# Altium schematic symbol library Passives.SchLib: 160 symbols (part 2 of 2)
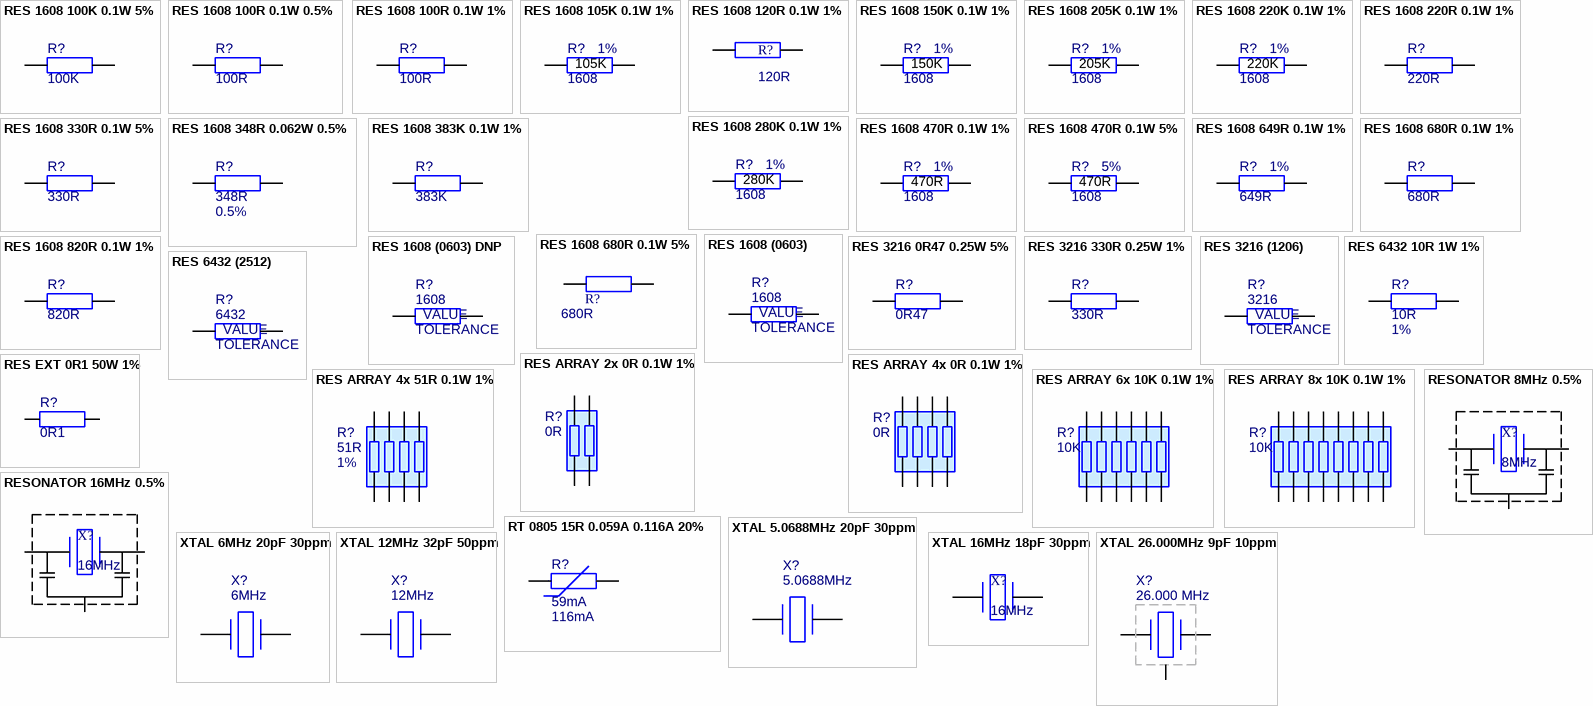
[diagram p4: symbols RES 1608 100K 0.1W 5% to XTAL 26.000MHz 9pF 10ppm]

## RES 1608 100K 0.1W 5%
designator R?  value 100K  (hidden comment: RES 1608 100K 0.1W 5%)
Resistor; Package Imperial: 0603; Supplier 1: Mouser; Supplier Part Number 1: 791-WR06X1003FTL; ComponentLink1Description: Datasheet; Last Updated: 2013-09-28; Package: 1608; Tolerance: 5%; Created: 2013-09-28; Power Rating: 0.1W
footprint RES_0603 (Chip Resistor, Body 1.6x0.8mm, IPC High Density)
footprint RES_1608 (0603)
pins: 1, 2

## RES 1608 100R 0.1W 0.5%
designator R?  value 100R  (hidden comment: RES 1608 100R 0.1W 0.5%)
Resistor; Package Imperial: 0603; Supplier 1: Mouser; Supplier Part Number 1: 667-ERA-3AED101V; ComponentLink1Description: Datasheet; Last Updated: 2014-02-11; Package: 1608; Tolerance: 0.5%; Created: 2013-09-28; Power Rating: 0.1W
footprint RES_0603 (Chip Resistor, Body 1.6x0.8mm, IPC High Density)
footprint RES_1608 (0603)
pins: 1, 2

## RES 1608 100R 0.1W 1%
designator R?  value 100R  (hidden comment: RES 1608 100R 0.1W 1%)
Resistor; Manufacturer 1: Vishay; Manufacturer Part Number 1: CRCW0603100RFKEA; Package Imperial: 0603; Supplier 1: Mouser; Supplier Part Number 1: 71-CRCW0603-100-E3; ComponentLink1Description: Datasheet; Last Updated: 2014-02-11; Package: 1608; Tolerance: 1%; Created: 2013-09-28; Power Rating: 0.1W
footprint RES_0603 (Chip Resistor, Body 1.6x0.8mm, IPC High Density)
footprint RES_1608 (0603)
pins: 1, 2

## RES 1608 105K 0.1W 1%
designator R?  Tolerance: 1%  Package: 1608  (hidden comment: RES 1608 105K 0.1W 1%)
Resistor; Manufacturer 1: Vishay; Manufacturer Part Number 1: CRCW0603105KFKEA; Package Imperial: 0603; Supplier 1: Mouser; Supplier Part Number 1: 71-CRCW0603-105K-E3; ComponentLink1Description: Datasheet; Last Updated: 2015-04-27; Created: 2014-02-17; Power Rating: 0.1W; Value: 105K
footprint RESC1608 (0603) (Metric (Imperial))
pins: 1, 2

## RES 1608 120R 0.1W 1%
designator R?  value 120R  (hidden comment: RES 1608 120R 0.1W 1%)
Resistor; Manufacturer 1: Vishay; Manufacturer Part Number 1: CRCW0603120RFKEB; Package Imperial: 0603; Supplier 1: Mouser; Supplier Part Number 1: 71-CRCW0603120RFKEB; Last Updated: 2013-11-19; ComponentLink1Description: Datasheet; ComponentLink1URL: http://www.mouser.com/ds/2/427/dcrcwe3-109170.pdf; Package: 1608; Tolerance: 1%; Created: 2013-11-19; Power Rating: 0.1W
footprint RES_0603 (Chip Resistor, Body 1.6x0.8mm, IPC High Density)
footprint RES_1608 (0603)
pins: 1, 2

## RES 1608 150K 0.1W 1%
designator R?  Package: 1608  Tolerance: 1%  (hidden comment: RES 1608 150K 0.1W 1%)
Resistor; Manufacturer 1: Vishay; Manufacturer Part Number 1: CRCW0603150KFKEA; Package Imperial: 0603; Supplier 1: Mouser; Supplier Part Number 1: 71-CRCW0603-150K-E3; Last Updated: 2014-01-24; ComponentLink1Description: Datasheet; Created: 2014-01-24; Power Rating: 0.1W; Value: 150K
footprint RESC1608 (0603) (Metric (Imperial))
pins: 1, 2

## RES 1608 205K 0.1W 1%
designator R?  Tolerance: 1%  Package: 1608  (hidden comment: RES 1608 205K 0.1W 1%)
Resistor; Manufacturer 1: Vishay; Manufacturer Part Number 1: CRCW0603205KFKEA; Package Imperial: 0603; Supplier 1: Mouser; Supplier Part Number 1: 71-CRCW0603-205K-E3; ComponentLink1Description: Datasheet; Last Updated: 2015-04-27; Created: 2014-02-17; Power Rating: 0.1W; Value: 205K
footprint RESC1608 (0603) (Metric (Imperial))
pins: 1, 2

## RES 1608 220K 0.1W 1%
designator R?  Tolerance: 1%  Package: 1608  (hidden comment: RES 1608 220K 0.1W 1%)
Resistor; Manufacturer 1: Vishay; Manufacturer Part Number 1: CRCW0603220KFKEA; Package Imperial: 0603; Value: 220R; Supplier 1: Mouser; Supplier Part Number 1: 71-CRCW0603-220K-E3; ComponentLink1Description: Datasheet; Last Updated: 2015-04-27; Created: 2013-09-28; Power Rating: 0.1W
footprint RESC1608 (0603) (Metric (Imperial))
pins: 1, 2
text: 220K

## RES 1608 220R 0.1W 1%
designator R?  value 220R  (hidden comment: RES 1608 220R 0.1W 1%)
Resistor; Package Imperial: 0603; Supplier 1: Mouser; Supplier Part Number 1: 660-RK73H1JTTD2200F; Tolerance: 1%; ComponentLink1Description: Datasheet; Last Updated: 2014-02-07; Package: 1608; Created: 2013-09-28; Power Rating: 0.1W
footprint RES_1608 (0603) (Metric (Imperial))
pins: 1, 2

## RES 1608 280K 0.1W 1%
designator R?  Tolerance: 1%  Package: 1608  (hidden comment: RES 1608 280K 0.1W 1%)
Resistor; Manufacturer 1: Vishay; Manufacturer Part Number 1: CRCW0603280KFKEA; Package Imperial: 0603; Supplier 1: Mouser; Supplier Part Number 1: 71-CRCW0603-280K-E3; ComponentLink1Description: Datasheet; Last Updated: 2015-04-27; Created: 2014-02-17; Power Rating: 0.1W; Value: 280K
footprint RESC1608 (0603) (Metric (Imperial))
pins: 1, 2

## RES 1608 330R 0.1W 5%
designator R?  value 330R  (hidden comment: RES 1608 330R 0.1W 5%)
Resistor; Package Imperial: 0603; ComponentLink1Description: Datasheet; Last Updated: 2014-06-02; Created: 2014-06-02; Power Rating: 0.1W; Package: 1608; Tolerance: 5%
footprint RES_1608 (0603) (Metric (Imperial))
pins: 1, 2

## RES 1608 348R 0.062W 0.5%
designator R?, comment value 348R  Tolerance: 0.5%  (hidden comment: RES 1608 348R  0.062W 0.5%)
Resistor; Manufacturer 1: Susumu; Manufacturer Part Number 1: RR0816P-3480-D-53A; Package Imperial: 0603; Supplier 1: Mouser; Supplier Part Number 1: 754-RR0816P-3480D53A; ComponentLink1Description: Datasheet; Last Updated: 2014-05-17; Package: 1608; Created: 2014-05-17; Power Rating: 0.062W
footprint RES_0603 (Chip Resistor, Body 1.6x0.8mm, IPC High Density)
footprint RES_1608 (0603)
pins: 1, 2

## RES 1608 383K 0.1W 1%
designator R?  value 383K  (hidden comment: RES 1608 383K 0.1W 1%)
Resistor; Manufacturer 1: Panasonic; Manufacturer Part Number 1: ERJ-3EKF3833V; Package Imperial: 0603; Supplier 1: Mouser; Supplier Part Number 1: 667-ERJ-3EKF3833V; Tolerance: 1%; ComponentLink1Description: Datasheet; Last Updated: 2014-02-11; Created: 2014-02-07; Power Rating: 0.1W; Package: 1608
footprint RES_0603 (Chip Resistor, Body 1.6x0.8mm, IPC High Density)
footprint RES_1608 (0603)
pins: 1, 2

## RES 1608 470R 0.1W 1%
designator R?  Tolerance: 1%  Package: 1608  (hidden comment: RES 1608 470R 0.1W 1%)
Resistor; Package Imperial: 0603; Supplier 1: Mouser; Supplier Part Number 1: 667-ERA-3AED471V; ComponentLink1Description: Datasheet; Last Updated: 2014-02-16; Created: 2013-09-28; Power Rating: 0.1W; Value: 470R
footprint RESC1608 (0603) (Metric (Imperial))
pins: 1, 2

## RES 1608 470R 0.1W 5%
designator R?  Package: 1608  Tolerance: 5%  (hidden comment: RES 1608 470R 0.1W 5%)
Resistor; Package Imperial: 0603; Supplier 1: Mouser; Supplier Part Number 1: 667-ERA-3AED471V; ComponentLink1Description: Datasheet; Last Updated: 2015-04-27; Created: 2013-09-28; Power Rating: 0.1W; Value: 470R
footprint RESC1608 (0603) (Metric (Imperial))
pins: 1, 2

## RES 1608 649R 0.1W 1%
designator R?  value 649R  Tolerance: 1%  (hidden comment: RES 1608 649R 0.1W 1%)
Resistor; Package Imperial: 0603; ComponentLink1Description: Datasheet; Last Updated: 2014-05-25; Created: 2014-05-25; Power Rating: 0.1W; Package: 1608
footprint RES_1608 (0603) (Metric (Imperial))
pins: 1, 2

## RES 1608 680R 0.1W 1%
designator R?  value 680R  (hidden comment: RES 1608 680R 0.1W 1%)
Resistor; Package Imperial: 0603; Supplier 1: Mouser; Supplier Part Number 1: 667-ERA-3AED681V; Tolerance: 1%; ComponentLink1Description: Datasheet; Last Updated: 2013-09-28; Package: 1608; Created: 2013-09-28; Power Rating: 0.1W
footprint RES_1608 (0603)
pins: 1, 2

## RES 1608 680R 0.1W 5%
designator R?  value 680R  (hidden comment: RES 1608 680R 0.1W 5%)
Resistor; Package Imperial: 0603; Supplier 1: Mouser; Supplier Part Number 1: 667-ERA-3AED681V; ComponentLink1Description: Datasheet; Last Updated: 2013-09-28; Package: 1608; Tolerance: 5%; Created: 2013-09-28; Power Rating: 0.1W
footprint RES_0603 (Chip Resistor, Body 1.6x0.8mm, IPC High Density)
footprint RES_1608 (0603)
pins: 1, 2

## RES 1608 820R 0.1W 1%
designator R?  value 820R  (hidden comment: RES 1608 820R 0.1W 1%)
Resistor; Manufacturer 1: Panasonic; Manufacturer Part Number 1: ERJ-3EKF8200V; Package Imperial: 0603; Supplier 1: Mouser; Supplier Part Number 1: 667-ERJ-3EKF8200V; Tolerance: 1%; ComponentLink1Description: Datasheet; Last Updated: 2014-07-23; Package: 1608; Created: 2013-09-28; Power Rating: 0.1W
footprint RES_1608 (0603) (Metric (Imperial))
pins: 1, 2

## RES 1608 (0603)
designator R?, comment Package: 1608  (hidden comment: Resistor)
Power Rating: 0.1W; Package Imperial: 0603; ComponentLink1Description: Datasheet; Last Updated: 2014-02-07; Created: 2014-02-07; Tolerance: TOLERANCE; Value: VALUE
footprint RES_1608 (0603)
pins: 1, 2

## RES 1608 (0603) DNP
designator R?  Package: 1608  (hidden comment: RES 1608 (0603) DNP)
Resistor; Power Rating: 0.1W; Package Imperial: 0603; Last Updated: 2013-10-17; Created: 2013-10-17; ComponentLink1Description: Datasheet; Tolerance: TOLERANCE; Value: VALUE
footprint RES_1608_DNP (0603) (Metric (Imperial))
pins: 1, 2

## RES 3216 0R47 0.25W 5%
designator R?  value 0R47  (hidden comment: RES 3216 0R47 0.25W 5%)
Resistor; Package Imperial: 1206; Supplier 1: Mouser; Supplier Part Number 1: 652-CRL1206JWR470ELF; ComponentLink1Description: Datasheet; Last Updated: 2014-02-17; Package: 3216; Tolerance: 5%; Created: 2013-09-28; Power Rating: 0.25W
footprint RES_3216 (1206) (Metric (Imperial))
pins: 1, 2

## RES 3216 330R 0.25W 1%
designator R?  value 330R  (hidden comment: RES 3216 330R 0.25W 1%)
Resistor; Manufacturer 1: Panasonic; Manufacturer Part Number 1: ERJ-8ENF3300V; Package Imperial: 1206; Supplier 1: Mouser; Supplier Part Number 1: 667-ERJ-8ENF3300V; Tolerance: 1%; ComponentLink1Description: Datasheet; Last Updated: 2014-02-16; Package: 3216; Created: 2014-02-16; Power Rating: 0.25W
footprint RES_3216 (1206) (Metric (Imperial))
pins: 1, 2

## RES 3216 (1206)
designator R?  Package: 3216  (hidden comment: RES 3216 (1206))
Resistor; Package Imperial: 1206; ComponentLink1Description: Datasheet; Last Updated: 2014-02-17; Created: 2013-09-28; Tolerance: TOLERANCE; Value: VALUE
footprint RES_3216 (1206) (Metric (Imperial))
pins: 1, 2

## RES 6432 10R 1W 1%
designator R?  value 10R  Tolerance: 1%  (hidden comment: RES 6432 10R 1W 1%)
Resistor; Manufacturer 1: KOA; Manufacturer Part Number 1: SL1TTE10R0F; Package Imperial: 2512; Supplier 1: Mouser; Supplier Part Number 1: 660-SL1TTE10R0F; ComponentLink1Description: Datasheet; Last Updated: 2014-08-23; Package: 6432; Created: 2014-08-23; Power Rating: 1W
footprint RES_6432 (2512) (Chip Resistor, 2-Leads, Body 5,65x3,10mm, IPC Medium Density)
pins: 1, 2

## RES 6432 (2512)
designator R?  Package: 6432  (hidden comment: RES 6432 (2512))
Resistor; Package Imperial: 2512; ComponentLink1Description: Datasheet; Last Updated: 2014-08-23; Created: 2014-08-23; Tolerance: TOLERANCE; Value: VALUE
footprint RES_6432 (2512) (Chip Resistor, 2-Leads, Body 5,65x3,10mm, IPC Medium Density)
pins: 1, 2

## RES ARRAY 2x 0R 0.1W 1%
designator R?  value 0R  (hidden comment: RES ARRAY 2x 0R 0.1W 1%)
Resistor Array; Manufacturer 1: Bourns; Power Rating: 0.062W; Last Updated: 2014-05-22; ComponentLink1Description: Datasheet; Package: CAT16-J2; Created: 2014-05-22; Quantity: 2; Tolerance: 1%
footprint ARRAY_CAT16J2
pins: 1, 2, 3, 4

## RES ARRAY 4x 0R 0.1W 1%
designator R?  value 0R  (hidden comment: RES ARRAY 4x 0R 0.1W 1%)
Resistor Array; Manufacturer 1: Bourns; Manufacturer Part Number 1: CAY16-51R0F4LF; Power Rating: 0.062W; Supplier 1: Mouser; Supplier Part Number 1: 652-CAY16-51R0F4LF; Last Updated: 2014-06-16; ComponentLink1Description: Datasheet; Package: CAY16-J2; Created: 2014-06-16; Quantity: 4; Tolerance: 1%
footprint ARRAY_CAY16F4
pins: 1, 2, 3, 4, 5, 6, 7, 8

## RES ARRAY 4x 51R 0.1W 1%
designator R?, comment value 51R  Tolerance: 1%  (hidden comment: RES CAY16-F4 51R 0.1W 1%)
Resistor Array; Manufacturer 1: Bourns; Manufacturer Part Number 1: CAY16-51R0F4LF; Power Rating: 0.062W; Supplier 1: Mouser; Supplier Part Number 1: 652-CAY16-51R0F4LF; Last Updated: 2014-06-16; ComponentLink1Description: Datasheet; Package: CAY16-J2; Created: 2014-06-16; Quantity: 4
footprint ARRAY_CAY16F4
pins: 1, 2, 3, 4, 5, 6, 7, 8

## RES ARRAY 6x 10K 0.1W 1%
designator R?  value 10K  (hidden comment: RES ARRAY 6x 10K 0.1W 1%)
Resistor Array; Manufacturer 1: Vishay; Manufacturer Part Number 1: CRA06P08310K0JTA; Power Rating: 0.062W; Supplier 1: Mouser; Supplier Part Number 1: 71-CRA06P-J-10K; Last Updated: 2014-09-21; ComponentLink1Description: Datasheet; Package: CAY16-J2; Created: 2014-09-21; Quantity: 4; Tolerance: 1%
footprint ARRAY_CRA06P (Vishay 6 resistor array)
pins: 1, 2, 3, 4, 5, 6, 7, 8, 9, 10, 11, 12

## RES ARRAY 8x 10K 0.1W 1%
designator R?  value 10K  (hidden comment: RES ARRAY 8x 10K 0.1W 1%)
Resistor Array; Manufacturer 1: CTS; Manufacturer Part Number 1: 742C163103JP; Power Rating: 0.062W; Supplier 1: Mouser; Supplier Part Number 1: 774-742C163103JP; Last Updated: 2014-09-21; ComponentLink1Description: Datasheet; Created: 2014-09-21; Quantity: 4; Tolerance: 1%
footprint ARRAY_CRA08P (Vishay 8 resistor array)
pins: 1, 2, 3, 4, 5, 6, 7, 8, 9, 10, 11, 12, 13, 14, 15, 16

## RES EXT 0R1 50W 1%
designator R?  value 0R1  (hidden comment: RES EXT 0R1 50W 1%)
Resistor; Manufacturer 1: Ohmite; Manufacturer Part Number 1: 850FR10E; Supplier 1: Mouser; Supplier Part Number 1: 588-850FR10E; Tolerance: 1%; ComponentLink1Description: Datasheet; Last Updated: 2014-08-30; Package: EXTERNAL; Created: 2014-08-30; Power Rating: 50W

## RESONATOR 8MHz 0.5%
designator X?, comment 8MHz
Resonator; Manufacturer 1: Abracon; Manufacturer Part Number 1: AWSCR-8.00CV-T; Tolerance: 0.5%; Supplier 1: Mouser; Supplier Part Number 1: 815-AWSCR-8.00CV-T; ComponentLink1Description: Datasheet; ComponentLink1URL: http://www.abracon.com/Resonators/AWSCR_CV.pdf; Last Updated: 2013-09-28; Created: 2013-09-28; Package: AWSCR-CV; Value: 8MHz
footprint AWSCR-CV
pins: 1, 2 GND, 3

## RESONATOR 16MHz 0.5%
designator X?, comment 16MHz
Resonator; Manufacturer 1: Abracon; Manufacturer Part Number 1: AWSCR-16.00CV-T; Tolerance: 0.5%; Supplier 1: Mouser; Supplier Part Number 1: 815-AWSCR-16.00CV-T; ComponentLink1Description: Datasheet; ComponentLink1URL: http://www.abracon.com/Resonators/AWSCR_CV.pdf; Last Updated: 2013-09-28; Created: 2013-09-28; Package: AWSCR-CV; Value: 16MHz
footprint AWSCR-CV
pins: 1, 2 GND, 3

## RT 0805 15R 0.059A 0.116A 20%
designator R?  Hold Current: 59mA  Trip Current: 116mA  (hidden comment: RT 0805 15R 0.059A 0.116A 20%)
Thermistor; Manufacturer 1: Murata; Manufacturer Part Number 1: PRG21BB150MB1RK; Max Voltage: 20V; Max Current: 1.6A; Last Updated: 2014-05-17; Package: 0805; Created: 2014-05-17; Resistance: 15R; Tolerance: 20%; ComponentLink1Description: Datasheet; Supplier 1: Mouser; Supplier Part Number 1: 81-PRG21BB150MB1RK
footprint RTH_0805 (Chip Thermistor, 2-Leads, Body 2,00x1,25mm, IPC Medium Density)
pins: 1, 2

## XTAL 5.0688MHz 20pF 30ppm
designator X?, comment 5.0688MHz
Crystal; Manufacturer 1: CTS; Manufacturer Part Number 1: ATS050SM-1; Tolerance: 30ppm; Supplier 1: Mouser; Supplier Part Number 1: 774-ATS050SM-1; ComponentLink1Description: Datasheet; Last Updated: 2014-02-10; Created: 2014-02-10; Package: ATS-SM; Value: 5.0688MHz
footprint XTAL_ATS-SM
pins: 1, 2

## XTAL 6MHz 20pF 30ppm
designator X?, comment 6MHz
Crystal; Manufacturer 1: CTS; Manufacturer Part Number 1: ATS060SM-1; Tolerance: 30ppm; Supplier 1: Mouser; Supplier Part Number 1: 774-ATS060SM-1; ComponentLink1Description: Datasheet; ComponentLink1URL: http://www.mouser.com/ds/2/96/008-0309-0-32667.pdf; Last Updated: 2014-06-29; Created: 2013-10-17; Package: ATS-SM; Value: 6MHz
footprint XTAL_ATS-SM
pins: 1, 2

## XTAL 12MHz 32pF 50ppm
designator X?, comment 12MHz
Crystal; Manufacturer 1: CTS; Manufacturer Part Number 1: ATS120SM-1; Tolerance: 50ppm; Supplier 1: Mouser; Supplier Part Number 1: 774-ATS120SM-1; ComponentLink1Description: Datasheet; Last Updated: 2014-06-29; Created: 2014-06-29; Package: HC-49/US-SM; Value: 12MHz
footprint XTAL_ATS-SM (Quartz Crystal)
pins: 1, 2

## XTAL 16MHz 18pF 30ppm
designator X?, comment 16MHz
Crystal; Manufacturer 1: CTS; Manufacturer Part Number 1: ATS16BSM-1; Tolerance: 30ppm; Supplier 1: Mouser; Supplier Part Number 1: 774-ATS16BSM-1; ComponentLink1Description: Datasheet; ComponentLink1URL: http://www.mouser.com/ds/2/96/008-0309-0-32667.pdf; Last Updated: 2013-09-28; Created: 2013-09-28; Package: ATS-SM; Value: 16MHz
footprint XTAL_ATS-SM
pins: 1, 2

## XTAL 26.000MHz 9pF 10ppm
designator X?, comment 26.000 MHz
Crystal; Manufacturer 1: Epson; Manufacturer Part Number 1: TSX-3225 26.0000MF09Z-AC3; Tolerance: 10ppm; Package Imperial: 1206; Supplier 1: Mouser; Supplier Part Number 1: 732-TX325-26F09Z-AC3; ComponentLink1Description: Datasheet; Last Updated: 2014-06-09; Created: 2014-02-10; Package: 3225; Value: 26.000 MHz
footprint TSX-3225 (Epson crystal package)
pins: 1, 2 GND, 3, 4 GND